# Altium footprint library Senior_PCB_Lib.PcbLib: 12 footprints
Each footprint in its own frame and in the unit in brackets; x right, y up, seen from the top. Pads: shape width x height; smd on the part's side, far side on the other; paste and mask are expansions set on the pad; w line width, h text height; cw(c..) or ccw(c..) is an arc to the next point about the centre after c.
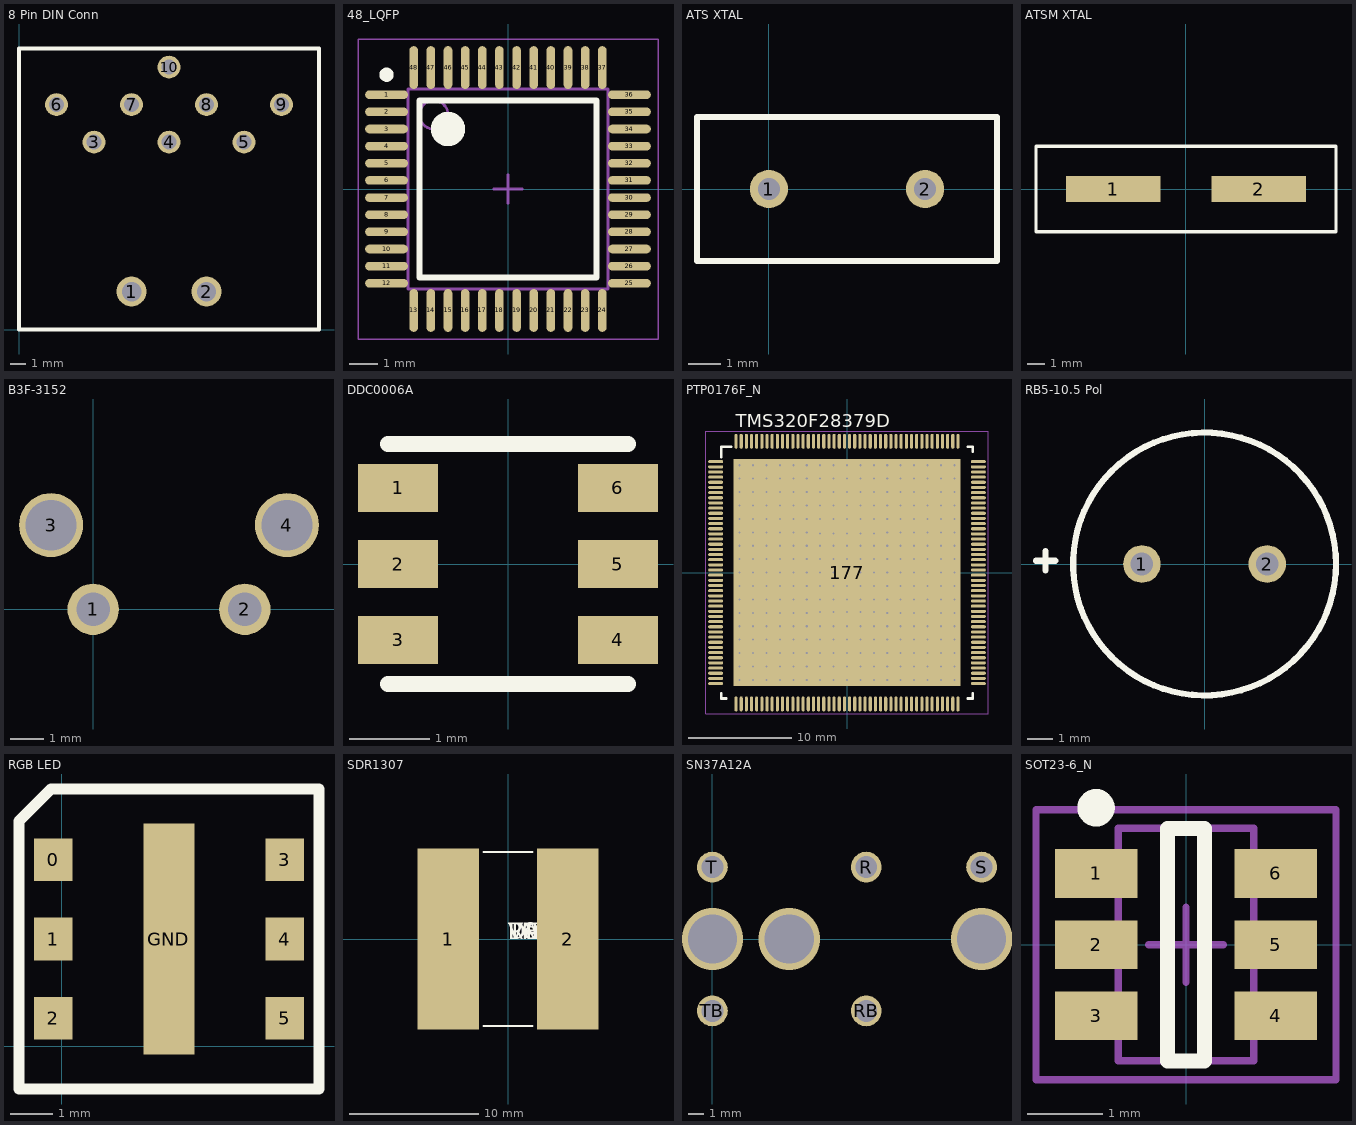
[diagram p0: the footprints below, top view; thin cyan lines are the x and y axes]

## 8 Pin DIN Conn [mm]
pads (10):
  round 2 hole 1.3: 1(7.5,2.54) 2(12.5,2.54)
  round 1.524 hole 1: 3(5,12.5) 4(10,12.5) 5(15,12.5) 6(2.5,15) 7(7.5,15) 8(12.5,15) 9(17.5,15) 10(10,17.5)
Top Overlay:
  lines w0.254: 0,0 0,18.75 20,18.75 20,0 0,0

## 48_LQFP [mm] "TSQFP, 48-Leads, Body 7.00x7.00mm, Pitch 0.60mm, IPC Medium Density"
height 1.6
pads (48):
  oval 1.5x0.3 smd: 1(-4.25,3.3) 2(-4.25,2.7) 3(-4.25,2.1) 4(-4.25,1.5) 5(-4.25,0.9) 6(-4.25,0.3) 7(-4.25,-0.3) 8(-4.25,-0.9) 9(-4.25,-1.5) 10(-4.25,-2.1) 11(-4.25,-2.7) 12(-4.25,-3.3) 25(4.25,-3.3) 26(4.25,-2.7) 27(4.25,-2.1) 28(4.25,-1.5) 29(4.25,-0.9) 30(4.25,-0.3) 31(4.25,0.3) 32(4.25,0.9) 33(4.25,1.5) 34(4.25,2.1) 35(4.25,2.7) 36(4.25,3.3)
  oval 0.3x1.5 smd: 13(-3.3,-4.25) 14(-2.7,-4.25) 15(-2.1,-4.25) 16(-1.5,-4.25) 17(-0.9,-4.25) 18(-0.3,-4.25) 19(0.3,-4.25) 20(0.9,-4.25) 21(1.5,-4.25) 22(2.1,-4.25) 23(2.7,-4.25) 24(3.3,-4.25) 37(3.3,4.25) 38(2.7,4.25) 39(2.1,4.25) 40(1.5,4.25) 41(0.9,4.25) 42(0.3,4.25) 43(-0.3,4.25) 44(-0.9,4.25) 45(-1.5,4.25) 46(-2.1,4.25) 47(-2.7,4.25) 48(-3.3,4.25)
Top Overlay:
  circle w0.6: c-2.1,2.1 r0.3
  circle w0.25: c-4.25,4 r0.125
  lines w0.2: -3.1,-3.1 3.1,-3.1 3.1,3.1 -3.1,3.1 -3.1,-3.1
Mechanical 13:
  circle w0.1: c-2.6,2.6 r0.5
  lines w0.1: -3.5,-3.5 3.5,-3.5 3.5,3.5 -3.5,3.5 -3.5,-3.5
Mechanical 15:
  lines w0.05: -5.25,-5.25 5.25,-5.25 5.25,5.25 -5.25,5.25 -5.25,-5.25
  lines w0.1: -0.5,0 0.5,0 ; 0,-0.5 0,0.5
3D body: height 1.6, standoff 0.15, extent -3.5,-3.5 3.5,3.5

## ATS XTAL [mm]
pads (2):
  round 1.2 hole 0.7: 1(0,0) 2(4.88,0)
Top Overlay:
  lines w0.2: -2.25,-2.25 -2.25,2.25 0,2.25 4.88,2.25 7.13,2.25 7.13,-2.25 4.88,-2.25 0,-2.25 -2.25,-2.25

## ATSM XTAL [mm]
height 4.3
pads (2):
  rect 5.5x1.5 smd: 1(-4.25,0) 2(4.25,0)
Top Overlay:
  lines w0.2: -8.75,-2.5 8.75,-2.5 8.75,2.5 -8.75,2.5 -8.75,0 -8.75,-2.5

## B3F-3152 [mm]
pads (4):
  round 1.524 hole 1: 1(0,0) 2(4.5,0)
  round 1.9 hole 1.5: 3(-1.25,2.5) 4(5.75,2.5)

## DDC0006A [mm]
pads (6):
  rect 1x0.6 smd paste+0 mask+0.051: 1(-1.375,0.95) 2(-1.375,0) 3(-1.375,-0.95) 4(1.375,-0.95) 5(1.375,0) 6(1.375,0.95)
Top Overlay:
  lines w0.2: -1.5,-1.5 1.5,-1.5 ; -1.5,1.5 1.5,1.5
3D body: height 0.25, standoff 0, extent -1.5,-1.5 1.5,1.5

## PTP0176F_N [mm]
pads (466):
  oval 1.45x0.3 smd paste+0 mask+0.051: 1(-12.725,10.75) 2(-12.725,10.25) 3(-12.725,9.75) 4(-12.725,9.25) 5(-12.725,8.75) 6(-12.725,8.25) 7(-12.725,7.75) 8(-12.725,7.25) 9(-12.725,6.75) 10(-12.725,6.25) 11(-12.725,5.75) 12(-12.725,5.25) 13(-12.725,4.75) 14(-12.725,4.25) 15(-12.725,3.75) 16(-12.725,3.25) 17(-12.725,2.75) 18(-12.725,2.25) 19(-12.725,1.75) 20(-12.725,1.25) 21(-12.725,0.75) 22(-12.725,0.25) 23(-12.725,-0.25) 24(-12.725,-0.75) 25(-12.725,-1.25) 26(-12.725,-1.75) 27(-12.725,-2.25) 28(-12.725,-2.75) 29(-12.725,-3.25) 30(-12.725,-3.75) 31(-12.725,-4.25) 32(-12.725,-4.75) 33(-12.725,-5.25) 34(-12.725,-5.75) 35(-12.725,-6.25) 36(-12.725,-6.75) 37(-12.725,-7.25) 38(-12.725,-7.75) 39(-12.725,-8.25) 40(-12.725,-8.75) 41(-12.725,-9.25) 42(-12.725,-9.75) 43(-12.725,-10.25) 44(-12.725,-10.75) 89(12.725,-10.75) 90(12.725,-10.25) 91(12.725,-9.75) 92(12.725,-9.25) 93(12.725,-8.75) 94(12.725,-8.25) 95(12.725,-7.75) 96(12.725,-7.25) 97(12.725,-6.75) 98(12.725,-6.25) 99(12.725,-5.75) 100(12.725,-5.25) 101(12.725,-4.75) 102(12.725,-4.25) 103(12.725,-3.75) 104(12.725,-3.25) 105(12.725,-2.75) 106(12.725,-2.25) 107(12.725,-1.75) 108(12.725,-1.25) 109(12.725,-0.75) 110(12.725,-0.25) 111(12.725,0.25) 112(12.725,0.75) 113(12.725,1.25) 114(12.725,1.75) 115(12.725,2.25) 116(12.725,2.75) 117(12.725,3.25) 118(12.725,3.75) 119(12.725,4.25) 120(12.725,4.75) 121(12.725,5.25) 122(12.725,5.75) 123(12.725,6.25) 124(12.725,6.75) 125(12.725,7.25) 126(12.725,7.75) 127(12.725,8.25) 128(12.725,8.75) 129(12.725,9.25) 130(12.725,9.75) 131(12.725,10.25) 132(12.725,10.75)
  oval 0.3x1.45 smd paste+0 mask+0.051: 45(-10.75,-12.725) 46(-10.25,-12.725) 47(-9.75,-12.725) 48(-9.25,-12.725) 49(-8.75,-12.725) 50(-8.25,-12.725) 51(-7.75,-12.725) 52(-7.25,-12.725) 53(-6.75,-12.725) 54(-6.25,-12.725) 55(-5.75,-12.725) 56(-5.25,-12.725) 57(-4.75,-12.725) 58(-4.25,-12.725) 59(-3.75,-12.725) 60(-3.25,-12.725) 61(-2.75,-12.725) 62(-2.25,-12.725) 63(-1.75,-12.725) 64(-1.25,-12.725) 65(-0.75,-12.725) 66(-0.25,-12.725) 67(0.25,-12.725) 68(0.75,-12.725) 69(1.25,-12.725) 70(1.75,-12.725) 71(2.25,-12.725) 72(2.75,-12.725) 73(3.25,-12.725) 74(3.75,-12.725) 75(4.25,-12.725) 76(4.75,-12.725) 77(5.25,-12.725) 78(5.75,-12.725) 79(6.25,-12.725) 80(6.75,-12.725) 81(7.25,-12.725) 82(7.75,-12.725) 83(8.25,-12.725) 84(8.75,-12.725) 85(9.25,-12.725) 86(9.75,-12.725) 87(10.25,-12.725) 88(10.75,-12.725) 133(10.75,12.725) 134(10.25,12.725) 135(9.75,12.725) 136(9.25,12.725) 137(8.75,12.725) 138(8.25,12.725) 139(7.75,12.725) 140(7.25,12.725) 141(6.75,12.725) 142(6.25,12.725) 143(5.75,12.725) 144(5.25,12.725) 145(4.75,12.725) 146(4.25,12.725) 147(3.75,12.725) 148(3.25,12.725) 149(2.75,12.725) 150(2.25,12.725) 151(1.75,12.725) 152(1.25,12.725) 153(0.75,12.725) 154(0.25,12.725) 155(-0.25,12.725) 156(-0.75,12.725) 157(-1.25,12.725) 158(-1.75,12.725) 159(-2.25,12.725) 160(-2.75,12.725) 161(-3.25,12.725) 162(-3.75,12.725) 163(-4.25,12.725) 164(-4.75,12.725) 165(-5.25,12.725) 166(-5.75,12.725) 167(-6.25,12.725) 168(-6.75,12.725) 169(-7.25,12.725) 170(-7.75,12.725) 171(-8.25,12.725) 172(-8.75,12.725) 173(-9.25,12.725) 174(-9.75,12.725) 175(-10.25,12.725) 176(-10.75,12.725)
  rect 22x22 smd paste-10.987 mask+0.051: 177(0,0)
  round 0.5 / inner round 1.524 / far side round 0.5 hole 0.203 mask+0.051: V(-10.4,-10.4) V(-10.4,-9.1) V(-10.4,-7.8) V(-10.4,-6.5) V(-10.4,-5.2) V(-10.4,-3.9) V(-10.4,-2.6) V(-10.4,-1.3) V(-10.4,0) V(-10.4,1.3) V(-10.4,2.6) V(-10.4,3.9) V(-10.4,5.2) V(-10.4,6.5) V(-10.4,7.8) V(-10.4,9.1) V(-10.4,10.4) V(-9.1,-10.4) V(-9.1,-9.1) V(-9.1,-7.8) V(-9.1,-6.5) V(-9.1,-5.2) V(-9.1,-3.9) V(-9.1,-2.6) V(-9.1,-1.3) V(-9.1,0) V(-9.1,1.3) V(-9.1,2.6) V(-9.1,3.9) V(-9.1,5.2) V(-9.1,6.5) V(-9.1,7.8) V(-9.1,9.1) V(-9.1,10.4) V(-7.8,-10.4) V(-7.8,-9.1) V(-7.8,-7.8) V(-7.8,-6.5) V(-7.8,-5.2) V(-7.8,-3.9) V(-7.8,-2.6) V(-7.8,-1.3) V(-7.8,0) V(-7.8,1.3) V(-7.8,2.6) V(-7.8,3.9) V(-7.8,5.2) V(-7.8,6.5) V(-7.8,7.8) V(-7.8,9.1) V(-7.8,10.4) V(-6.5,-10.4) V(-6.5,-9.1) V(-6.5,-7.8) V(-6.5,-6.5) V(-6.5,-5.2) V(-6.5,-3.9) V(-6.5,-2.6) V(-6.5,-1.3) V(-6.5,0) V(-6.5,1.3) V(-6.5,2.6) V(-6.5,3.9) V(-6.5,5.2) V(-6.5,6.5) V(-6.5,7.8) V(-6.5,9.1) V(-6.5,10.4) V(-5.2,-10.4) V(-5.2,-9.1) V(-5.2,-7.8) V(-5.2,-6.5) V(-5.2,-5.2) V(-5.2,-3.9) V(-5.2,-2.6) V(-5.2,-1.3) V(-5.2,0) V(-5.2,1.3) V(-5.2,2.6) V(-5.2,3.9) V(-5.2,5.2) V(-5.2,6.5) V(-5.2,7.8) V(-5.2,9.1) V(-5.2,10.4) V(-3.9,-10.4) V(-3.9,-9.1) V(-3.9,-7.8) V(-3.9,-6.5) V(-3.9,-5.2) V(-3.9,-3.9) V(-3.9,-2.6) V(-3.9,-1.3) V(-3.9,0) V(-3.9,1.3) V(-3.9,2.6) V(-3.9,3.9) V(-3.9,5.2) V(-3.9,6.5) V(-3.9,7.8) V(-3.9,9.1) V(-3.9,10.4) V(-2.6,-10.4) V(-2.6,-9.1) V(-2.6,-7.8) V(-2.6,-6.5) V(-2.6,-5.2) V(-2.6,-3.8) V(-2.6,-2.6) V(-2.6,-1.3) V(-2.6,0) V(-2.6,1.3) V(-2.6,2.6) V(-2.6,3.8) V(-2.6,5.2) V(-2.6,6.5) V(-2.6,7.8) V(-2.6,9.1) V(-2.6,10.4) V(-1.3,-10.4) V(-1.3,-9.1) V(-1.3,-7.8) V(-1.3,-6.5) V(-1.3,-5.2) V(-1.3,-3.8) V(-1.3,-2.6) V(-1.3,-1.3) V(-1.3,0) V(-1.3,1.3) V(-1.3,2.6) V(-1.3,3.8) V(-1.3,5.2) V(-1.3,6.5) V(-1.3,7.8) V(-1.3,9.1) V(-1.3,10.4) V(0,-10.4) V(0,-9.1) V(0,-7.8) V(0,-6.5) V(0,-5.2) V(0,-3.8) V(0,-2.6) V(0,-1.3) V(0,0) V(0,1.3) V(0,2.6) V(0,3.8) V(0,5.2) V(0,6.5) V(0,7.8) V(0,9.1) V(0,10.4) V(1.3,-10.4) V(1.3,-9.1) V(1.3,-7.8) V(1.3,-6.5) V(1.3,-5.2) V(1.3,-3.8) V(1.3,-2.6) V(1.3,-1.3) V(1.3,0) V(1.3,1.3) V(1.3,2.6) V(1.3,3.8) V(1.3,5.2) V(1.3,6.5) V(1.3,7.8) V(1.3,9.1) V(1.3,10.4) V(2.6,-10.4) V(2.6,-9.1) V(2.6,-7.8) V(2.6,-6.5) V(2.6,-5.2) V(2.6,-3.8) V(2.6,-2.6) V(2.6,-1.3) V(2.6,0) V(2.6,1.3) V(2.6,2.6) V(2.6,3.8) V(2.6,5.2) V(2.6,6.5) V(2.6,7.8) V(2.6,9.1) V(2.6,10.4) V(3.9,-10.4) V(3.9,-9.1) V(3.9,-7.8) V(3.9,-6.5) V(3.9,-5.2) V(3.9,-3.9) V(3.9,-2.6) V(3.9,-1.3) V(3.9,0) V(3.9,1.3) V(3.9,2.6) V(3.9,3.9) V(3.9,5.2) V(3.9,6.5) V(3.9,7.8) V(3.9,9.1) V(3.9,10.4) V(5.2,-10.4) V(5.2,-9.1) V(5.2,-7.8) V(5.2,-6.5) V(5.2,-5.2) V(5.2,-3.9) V(5.2,-2.6) V(5.2,-1.3) V(5.2,0) V(5.2,1.3) V(5.2,2.6) V(5.2,3.9) V(5.2,5.2) V(5.2,6.5) V(5.2,7.8) V(5.2,9.1) V(5.2,10.4) V(6.5,-10.4) V(6.5,-9.1) V(6.5,-7.8) V(6.5,-6.5) V(6.5,-5.2) V(6.5,-3.9) V(6.5,-2.6) V(6.5,-1.3) V(6.5,0) V(6.5,1.3) V(6.5,2.6) V(6.5,3.9) V(6.5,5.2) V(6.5,6.5) V(6.5,7.8) V(6.5,9.1) V(6.5,10.4) V(7.8,-10.4) V(7.8,-9.1) V(7.8,-7.8) V(7.8,-6.5) V(7.8,-5.2) V(7.8,-3.9) V(7.8,-2.6) V(7.8,-1.3) V(7.8,0) V(7.8,1.3) V(7.8,2.6) V(7.8,3.9) V(7.8,5.2) V(7.8,6.5) V(7.8,7.8) V(7.8,9.1) V(7.8,10.4) V(9.1,-10.4) V(9.1,-9.1) V(9.1,-7.8) V(9.1,-6.5) V(9.1,-5.2) V(9.1,-3.9) V(9.1,-2.6) V(9.1,-1.3) V(9.1,0) V(9.1,1.3) V(9.1,2.6) V(9.1,3.9) V(9.1,5.2) V(9.1,6.5) V(9.1,7.8) V(9.1,9.1) V(9.1,10.4) V(10.4,-10.4) V(10.4,-9.1) V(10.4,-7.8) V(10.4,-6.5) V(10.4,-5.2) V(10.4,-3.9) V(10.4,-2.6) V(10.4,-1.3) V(10.4,0) V(10.4,1.3) V(10.4,2.6) V(10.4,3.9) V(10.4,5.2) V(10.4,6.5) V(10.4,7.8) V(10.4,9.1) V(10.4,10.4)
Top Overlay:
  lines w0.254: -12.2,-11.7 -12.2,-12.2 -11.7,-12.2 ; -12.2,11.2 -12.2,12.2 -11.2,12.2 ; 11.7,-12.2 12.2,-12.2 12.2,-11.7 ; 11.7,12.2 12.2,12.2 12.2,11.7
  text "TMS320F28379D" at -10.795,14.097 h1.27
Top Paste:
  region: -3.65,4.035 -3.65,-4.035 3.655,-4.035 3.655,4.035
Mechanical 13:
  text ".Designator" at -1.524,-0.508 h1.27
Mechanical 15:
  lines w0.05: -13.7,-13.7 13.7,-13.7 13.7,13.7 -13.7,13.7 -13.7,-13.7
  lines w0.1: -0.5,0 0.5,0 ; 0,-0.5 0,0.5
3D body: height 0.25, standoff 0, extent 0,0 0.254,0.254

## RB5-10.5 Pol [mm]
pads (2):
  round 1.5 hole 0.9: 1(-2.5,0) 2(2.5,0)
Top Overlay:
  circle w0.25: c0,0 r5.25
  lines w0.254: -6.731,0.127 -5.969,0.127 ; -6.35,-0.254 -6.35,0.508
Mechanical 1:
  circle w0.02: c0,0 r5.25

## RGB LED [mm] "APA102C - 6-Pin SMT RGB LED"
height 1.4
pads (7):
  rect 0.9x1 smd: 0(-0.2,4.35) 1(-0.2,2.5) 2(-0.2,0.65) 3(5.2,4.35) 4(5.2,2.5) 5(5.2,0.65)
  rect 1.2x5.4 smd: GND(2.5,2.5)
Top Overlay:
  lines w0.254: -1,-1 -1,5.25 -0.25,6 6,6 6,-1 -1,-1
3D body: height 1.4, standoff 0, extent 0,0 5,5
3D body: height 0.25, standoff 0, extent 0,0 0,0

## SDR1307 [mil]
pads (2):
  rect 187x551 smd: 1(-182,0) 2(182,0)
Top Overlay:
  lines w6: -75.4,-266 75.4,-266 ; -75.4,266 75.4,266
  text "TOL" at 0,0 h50
  text "VAL" at 0,0 h50
  text "DEV" at 0,0 h50
  text "PN" at 0,0 h50
  text "DEV" at 0,0 h50
  text "RefDes" at 0,0 h50
3D body "SDR1307.stp": height 300, standoff 0, extent -278,-266 278,266

## SN37A12A [mil]
pads (5):
  round 80 hole 57: R(400,187) RB(400,-187) S(700,187) T(0,187) TB(0,-187)
via 700,0 diameter 160 hole 128
via 200,0 diameter 160 hole 128
via 0,0 diameter 160 hole 128

## SOT23-6_N [mm]
pads (6):
  rect 1.1x0.65 smd: 1(-1.2,0.95) 2(-1.2,0) 3(-1.2,-0.95) 4(1.2,-0.95) 5(1.2,0) 6(1.2,0.95)
Top Overlay:
  circle w0.25: c-1.2,1.825 r0.125
  lines w0.2: -0.25,-1.55 0.25,-1.55 0.25,1.55 -0.25,1.55 -0.25,-1.55
Mechanical 13:
  lines w0.1: -0.9,-1.55 -0.9,1.55 0.9,1.55 0.9,-1.55 -0.9,-1.55
Mechanical 15:
  lines w0.1: -0.5,0 0.5,0 ; 0,-0.5 0,0.5 ; -2,-1.8 -2,1.8 2,1.8 2,-1.8 -2,-1.8
3D body: height 1.45, standoff 0, extent -0.9,-1.55 0.9,1.55